# Altium schematic symbol library L78L06ACD.Schlib: 1 symbol
Pins are listed as number, name and electrical type; pins without a type are passive.

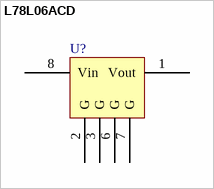
[diagram p0: symbol L78L06ACD]

## L78L06ACD
designator U?  (value not drawn)
pins: 1 Vout (power), 2 G (power), 3 G (power), 6 G (power), 7 G (power), 8 Vin (power)